# Altium footprint library C1005X6S1C105K050BC.PcbLib: 3 footprints
Each footprint in its own frame and in the unit in brackets; x right, y up, seen from the top. Pads: shape width x height; smd on the part's side, far side on the other; paste and mask are expansions set on the pad; w line width, h text height; cw(c..) or ccw(c..) is an arc to the next point about the centre after c.
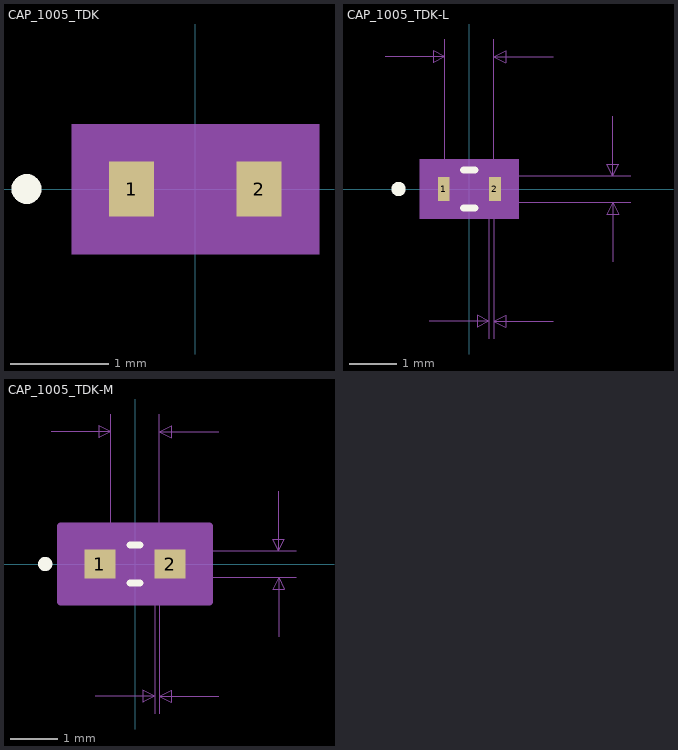
[diagram p0: the footprints below, top view; thin cyan lines are the x and y axes]

## CAP_1005_TDK [mil]
pads (2):
  rect 18x22 smd paste+0 mask+0: 1(-25.5,0) 2(25.5,0)
Top Overlay:
  circle w6: c-67.5,0 r3
Mechanical 5:
  region: 49.5,-26 -49.5,-26 -49.5,26 49.5,26
Mechanical 13:
  circle w0: c-20.5,0 r3
  lines w1: -20.5,-11 -20.5,11 ; -20.5,-11 -16.5,-11 -16.5,11 -20.5,11 ; -20.5,-11 20.5,-11 ; -20.5,-11 -20.5,11 ; -20.5,11 20.5,11 ; 20.5,-11 16.5,-11 16.5,11 20.5,11 ; 20.5,-11 20.5,11 ; 20.5,-11 20.5,11
Mechanical 15:
  region: 44.5,-21 -44.5,-21 -44.5,21 44.5,21
  lines w6: -44.5,-21 -44.5,21 44.5,21 44.5,-21 -44.5,-21
3D body: height 10, standoff 0, extent -20,-10 20,10

## CAP_1005_TDK-L [mil]
pads (2):
  rect 10x20 smd paste+0 mask+0: 1(-21.5,0) 2(21.5,0)
Top Overlay:
  circle w6: c-59.5,0 r3
  lines w6: -4.85,-16 4.85,-16 ; -4.85,16 4.85,16
Mechanical 5:
  region: 41.5,-25 -41.5,-25 -41.5,25 41.5,25
Mechanical 7:
  lines w1: -70.5,111 -20.5,111 ; -33.5,-111 16.5,-111 ; -20.5,0 -20.5,126 ; 0,-11 135.5,-11 ; 0,11 135.5,11 ; 16.5,-126 16.5,0 ; 20.5,-126 20.5,0 20.5,126 ; 70.5,-111 20.5,-111 ; 70.5,111 20.5,111 ; 120.5,-61 120.5,-11 ; 120.5,61 120.5,11 ; -20.5,111 -30.5,116 -30.5,106 -20.5,111 ; 16.5,-111 6.5,-106 6.5,-116 16.5,-111 ; 20.5,-111 30.5,-106 30.5,-116 20.5,-111 ; 20.5,111 30.5,116 30.5,106 20.5,111 ; 120.5,-11 115.5,-21 125.5,-21 120.5,-11 ; 120.5,11 115.5,21 125.5,21 120.5,11
  text "Default Padstyle: RX10Y20D0T" at -350,-280 h50
  text "Alternate 1 Padstyle: OX60Y90D30P" at -412.5,-380 h50
  text "Alternate 2 Padstyle: OX90Y60D30P" at -412.5,-480 h50
  text "0.022in/0.559mm" at 140.5,-12.5 h25
  text "0.041in/1.041mm" at -93.75,131 h25
  text "0.004in/0.102mm" at -75.25,-156 h25
Mechanical 13:
  circle w0: c-16.5,0 r3
  lines w1: -20.5,-11 -20.5,11 ; -20.5,-11 -16.5,-11 -16.5,11 -20.5,11 ; -20.5,-11 20.5,-11 ; -20.5,-11 -20.5,11 ; -20.5,11 20.5,11 ; 20.5,-11 16.5,-11 16.5,11 20.5,11 ; 20.5,-11 20.5,11 ; 20.5,-11 20.5,11
Mechanical 15:
  region: 30.5,-14 -30.5,-14 -30.5,14 30.5,14
  lines w6: -30.5,-14 -30.5,14 30.5,14 30.5,-14 -30.5,-14
3D body: height 10, standoff 0, extent 0,0 10,10

## CAP_1005_TDK-M [mil]
pads (2):
  rect 26x24 smd paste+0 mask+0: 1(-29.5,0) 2(29.5,0)
Top Overlay:
  circle w6: c-75.5,0 r3
  lines w6: -4.03,-16 4.03,-16 ; -4.03,16 4.03,16
Mechanical 5:
  region: 57.5,-27 -57.5,-27 -57.5,27 57.5,27
Mechanical 7:
  lines w1: -70.5,111 -20.5,111 ; -33.5,-111 16.5,-111 ; -20.5,0 -20.5,126 ; 0,-11 135.5,-11 ; 0,11 135.5,11 ; 16.5,-126 16.5,0 ; 20.5,-126 20.5,0 20.5,126 ; 70.5,-111 20.5,-111 ; 70.5,111 20.5,111 ; 120.5,-61 120.5,-11 ; 120.5,61 120.5,11 ; -20.5,111 -30.5,116 -30.5,106 -20.5,111 ; 16.5,-111 6.5,-106 6.5,-116 16.5,-111 ; 20.5,-111 30.5,-106 30.5,-116 20.5,-111 ; 20.5,111 30.5,116 30.5,106 20.5,111 ; 120.5,-11 115.5,-21 125.5,-21 120.5,-11 ; 120.5,11 115.5,21 125.5,21 120.5,11
  text "Default Padstyle: RX26Y24D0T" at -350,-282 h50
  text "Alternate 1 Padstyle: OX60Y90D30P" at -412.5,-382 h50
  text "Alternate 2 Padstyle: OX90Y60D30P" at -412.5,-482 h50
  text "0.022in/0.559mm" at 140.5,-12.5 h25
  text "0.041in/1.041mm" at -93.75,131 h25
  text "0.004in/0.102mm" at -75.25,-156 h25
Mechanical 13:
  circle w0: c-24.5,0 r3
  lines w1: -20.5,-11 -20.5,11 ; -20.5,-11 -16.5,-11 -16.5,11 -20.5,11 ; -20.5,-11 20.5,-11 ; -20.5,-11 -20.5,11 ; -20.5,11 20.5,11 ; 20.5,-11 16.5,-11 16.5,11 20.5,11 ; 20.5,-11 20.5,11 ; 20.5,-11 20.5,11
Mechanical 15:
  region: 62.5,-32 -62.5,-32 -62.5,32 62.5,32
  lines w6: -62.5,-32 -62.5,32 62.5,32 62.5,-32 -62.5,-32
3D body: height 10, standoff 0, extent 0,0 10,10